# EAGLE library part LTC3119 (library NEON-BLADE-2024)
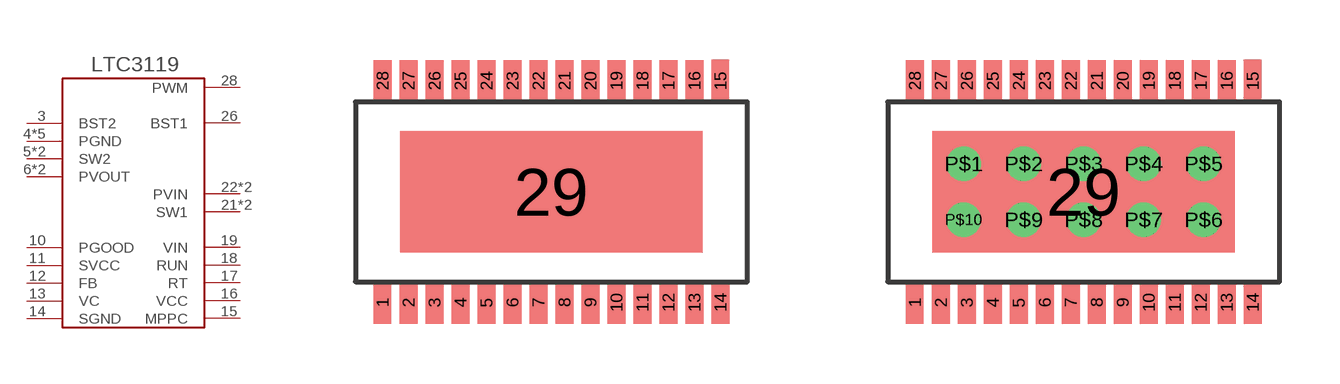
[diagram p2: symbol with the pads of TSSOP28+HEAT_L; footprints TSSOP28+HEAT_L, LTC3119+VIA]

Designator prefix -

## LTC3119  [TSSOP28+HEAT_L]
3  BST2
4  PGND
5  SW2
6  PVOUT
7  PVOUT
8  SW2
9  PGND
10  PGOOD
11  SVCC
12  FB
13  VC
14  SGND
15  MPPC
16  VCC
17  RT
18  RUN
19  VIN
20  PGND
21  SW1
22  PVIN
23  PVIN
24  SW1
25  PGND
26  BST1
28  PWM
29  PGND

## LTC31191  [LTC3119+VIA]
3  BST2
4  PGND
5  SW2
6  PVOUT
7  PVOUT
8  SW2
9  PGND
10  PGOOD
11  SVCC
12  FB
13  VC
14  SGND
15  MPPC
16  VCC
17  RT
18  RUN
19  VIN
20  PGND
21  SW1
22  PVIN
23  PVIN
24  SW1
25  PGND
26  BST1
28  PWM
29  PGND
P$1  PGND
P$2  PGND
P$3  PGND
P$4  PGND
P$5  PGND
P$6  PGND
P$7  PGND
P$8  PGND
P$9  PGND
P$10  PGND

## Footprint TSSOP28+HEAT_L (pad centres in mm)
smd 0.45 x 1.05: 1 -4.225,-2.775; 2 -3.575,-2.775; 3 -2.925,-2.775; 4 -2.275,-2.775; 5 -1.625,-2.775; 6 -0.975,-2.775; 7 -0.325,-2.775; 8 0.325,-2.775; 9 0.975,-2.775; 10 1.625,-2.775; 11 2.275,-2.775; 12 2.925,-2.775; 13 3.575,-2.775; 14 4.225,-2.775; 15 4.225,2.775; 16 3.575,2.775; 17 2.925,2.775; 18 2.275,2.775; 19 1.625,2.775; 20 0.975,2.775; 21 0.325,2.775; 22 -0.325,2.775; 23 -0.975,2.775; 24 -1.625,2.775; 25 -2.275,2.775; 26 -2.925,2.775; 27 -3.575,2.775; 28 -4.225,2.775
smd 7.56 x 3.05: 29 0,0

## Footprint LTC3119+VIA (pad centres in mm)
smd 0.45 x 1.05: 1 -4.225,-2.775; 2 -3.575,-2.775; 3 -2.925,-2.775; 4 -2.275,-2.775; 5 -1.625,-2.775; 6 -0.975,-2.775; 7 -0.325,-2.775; 8 0.325,-2.775; 9 0.975,-2.775; 10 1.625,-2.775; 11 2.275,-2.775; 12 2.925,-2.775; 13 3.575,-2.775; 14 4.225,-2.775; 15 4.225,2.775; 16 3.575,2.775; 17 2.925,2.775; 18 2.275,2.775; 19 1.625,2.775; 20 0.975,2.775; 21 0.325,2.775; 22 -0.325,2.775; 23 -0.975,2.775; 24 -1.625,2.775; 25 -2.275,2.775; 26 -2.925,2.775; 27 -3.575,2.775; 28 -4.225,2.775
smd 7.56 x 3.05: 29 0,0
drill 0.35 pad 0.813: P$1 -3,0.7; P$2 -1.5,0.7; P$3 0,0.7; P$4 1.5,0.7; P$5 3,0.7; P$6 3,-0.7; P$7 1.5,-0.7; P$8 0,-0.7; P$9 -1.5,-0.7; P$10 -3,-0.7